# EAGLE library part 750341252 (library Wurth Electronics Midcom Inc - EAGLE Lib V2-1)
Package Style: EPC13 Mounting: THT Pins: 10 pins Bobbin: 070-5483 Best pinouts for production vary per application. Please contact Wurth Electronics Midcom, Inc. for assistance with your custom design. Website: Wurth Electronics Midcom <http://www.we-online.com/midcom> Contact us Wurth Electronics Midcom, Inc. 121 Airport Dr. Watertown, SD 57201 Phone: (605) 886-4385 Fax: (605) 886-4486 E-Mail: midcom@we-online.com
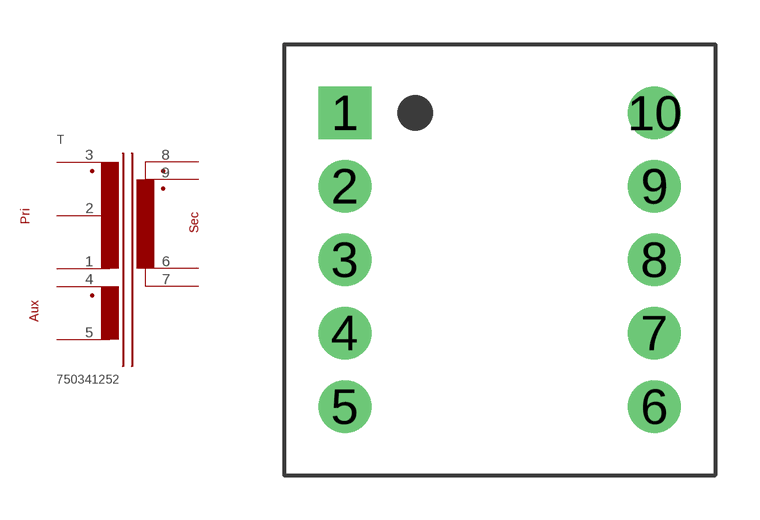
[diagram p87: symbol with the pads of EPC13_THT_H_10PIN_(5483); footprint EPC13_THT_H_10PIN_(5483)]

Designator prefix T

## 750341252  [EPC13_THT_H_10PIN_(5483)]
1  1  pas
2  2  pas
3  3  pas
4  4  pas
5  5  pas
6  6  pas
7  7  pas
8  8  pas
9  9  pas

## Footprint EPC13_THT_H_10PIN_(5483) (pad centres in mm)
Package Style: EPC13 Mounting: THT Pins: 10 Bobbin: 070-5483
drill 1.194 square: 1 -5.245,4.978
drill 1.194: 2 -5.245,2.489; 3 -5.245,0; 4 -5.245,-2.489; 5 -5.245,-4.978; 6 5.245,-4.978; 7 5.245,-2.489; 8 5.245,0; 9 5.245,2.489; 10 5.245,4.978